# EAGLE library part SKY13575-639LF (library ruark2)
RF Switch IC 802.11a/b/g/n/ac SP4T 6GHz 50 Ohm 14-QFN (1.6x1.6)
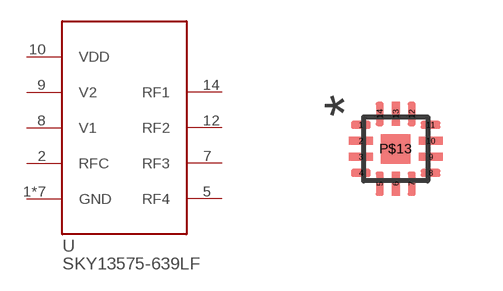
[diagram p71: symbol with the pads of 14QFN_1.6X1.6; footprint 14QFN_1.6X1.6]

Designator prefix U

## SKY13575-639LF (PARTNO: 863-1767-1-ND)  [14QFN_1.6X1.6]
1  GND
2  RFC
3  GND
4  GND
5  RF4
6  GND
7  RF3
8  V1
9  V2
10  VDD
11  GND
12  RF2
13  GND
14  RF1
P$13  GND

## Footprint 14QFN_1.6X1.6 (pad centres in mm)
smd 0.49 x 0.2: 1 -0.872,0.6; 4 -0.872,-0.6; 8 0.872,-0.6; 11 0.872,0.6
smd 0.6 x 0.2: 2 -0.872,0.2; 3 -0.872,-0.2; 9 0.872,-0.2; 10 0.872,0.2
smd 0.19 x 0.6: 5 -0.4,-0.872; 7 0.4,-0.872; 12 0.4,0.872; 14 -0.4,0.872
smd 0.2 x 0.6: 6 0,-0.872; 13 0,0.872
smd 0.74 x 0.74: P$13 0,0